# Altium footprint library R_0402.PCBLIB: 1 footprints
Each footprint in its own frame and in the unit in brackets; x right, y up, seen from the top. Pads: shape width x height; smd on the part's side, far side on the other; paste and mask are expansions set on the pad; w line width, h text height; cw(c..) or ccw(c..) is an arc to the next point about the centre after c.
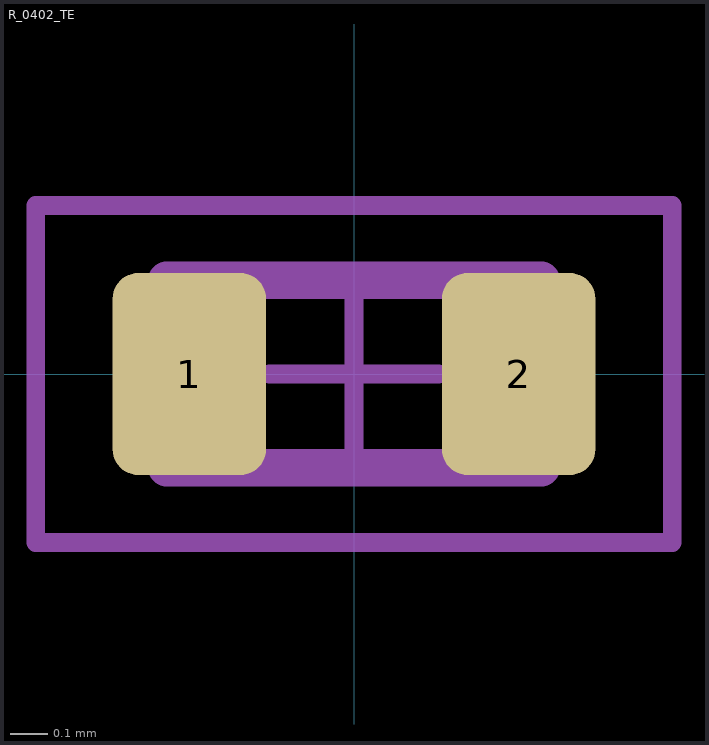
[diagram p0: the footprint, top view; thin cyan lines are the x and y axes]

## R_0402_TE [mm] "Vishay D0402 1 x 0.5mm (+/- 0.05), 0.2mm +/-0.1mm Kontakte"
height 0.35
pads (2):
  rrect33% 0.41x0.54 smd: 1(-0.44,0) 2(0.44,0)
Top Assembly:
  lines w0.1: -0.3,-0.25 -0.3,0.25 ; 0.3,-0.25 0.3,0.25 ; -0.5,-0.25 0.5,-0.25 0.5,0.25 -0.5,0.25 -0.5,-0.25
Top Courtyard:
  lines w0.05: -0.85,-0.45 0.85,-0.45 0.85,0.45 -0.85,0.45 -0.85,-0.45
Top Designator:
  text ".Designator" at 0.8,-0.3 h0.7
Top Component Center:
  lines w0.05: -0.225,0 0.225,0 ; 0,-0.225 0,0.225
3D body "RESC1005X40L25.STEP": height 0.4, standoff 0, extent -0.5,-0.25 0.5,0.25